# EAGLE library part TS3A44159 (library soumilcustom)
TS3A44159 Bidirectional 4 Channel SPDT Analog Switch Package: TSSOP (PW) 16 http://www.ti.com/product/TS3A44159
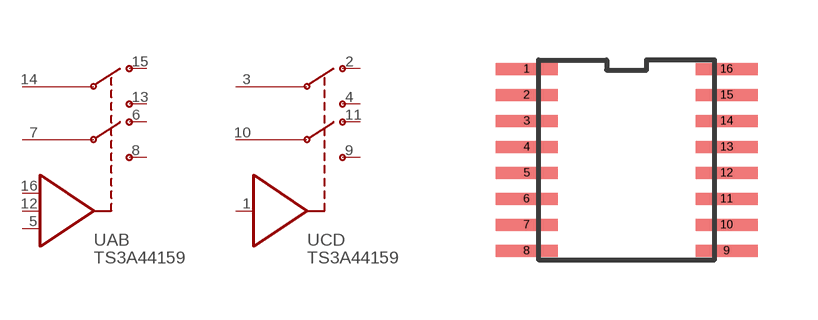
[diagram p1: symbol with the pads of PDSO16; footprint PDSO16]

Designator prefix -; gates AB=DUALCONSPDT+- CD=DUALCONSPDT

## TS3A44159  [PDSO16]
1  CD:IN1-2
2  CD:NC1
3  CD:COM1
4  CD:NO1
5  AB:GND
6  AB:NC2
7  AB:COM2
8  AB:NO2
9  CD:NO2
10  CD:COM2
11  CD:NC2
12  AB:VCC
13  AB:NO1
14  AB:COM1
15  AB:NC1
16  AB:IN1-2

## Footprint PDSO16 (pad centres in mm)
smd 1.55 x 0.3: 1 -2.5,2.275; 2 -2.5,1.625; 3 -2.5,0.975; 4 -2.5,0.325; 5 -2.5,-0.325; 6 -2.5,-0.975; 7 -2.5,-1.625; 8 -2.5,-2.275; 9 2.5,-2.275; 10 2.5,-1.625; 11 2.5,-0.975; 12 2.5,-0.325; 13 2.5,0.325; 14 2.5,0.975; 15 2.5,1.625; 16 2.5,2.275